# Altium schematic symbol library kmilo17pet-LT_OpAmp_LT2000.SchLib: 1710 symbols (part 34 of 75)
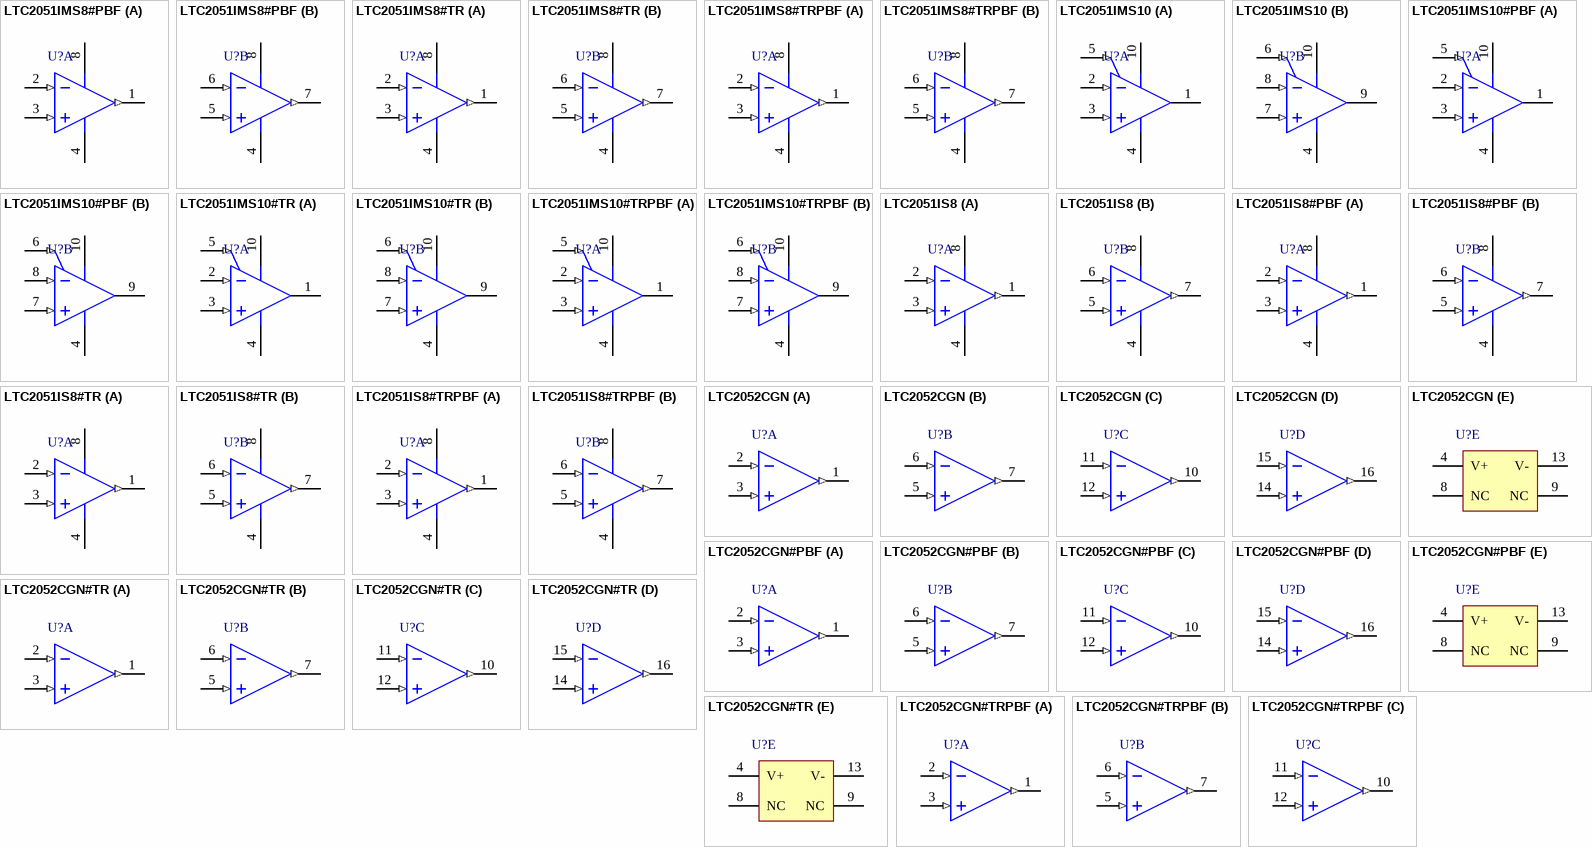
[diagram p113: symbols LTC2051IMS8#PBF to LTC2052CGN#TRPBF]

## LTC2051IS8#TR
designator U?
Dual Channel, Zero-Drift Operational Amplifier, 3 MHz Typical GBW, 2 V/us Typical SR, 2.7 to 6 V, 8-Pin SOIC (S8-8), Industrial, Reel; Linear Technology Part Number: LTC2051; Manufacturer: Linear Technology; PartNumber: LTC2051IS8#TR; Channels (#): 2; GBW (MHz) Typical: 3; Is (mA) Typical: 0.85; Vos (mV) Typical: 0.0005; Vs Max (V): 6; Vs Min (V): 2.7; DatasheetVersion: Rev. D; PackageVersion: Rev G; PackageReference: LT-S8-8; PackageDescription: 8-Pin Plastic Small Outline, Body 4.9 x 3.9 mm, Pitch 1.27 mm; Supplier 1: Digi-Key; Supplier Part Number 1: LTC2051IS8#TR-ND; Packing: Reel; SR (V/us) Typical: 2; Type: ZD; Mounting Technology: Surface Mount; ComponentLink1Description: Manufacturer URL; ComponentLink1URL: http://www.linear.com/; ComponentLink2Description: Datasheet; ComponentLink2URL: http://cds.linear.com/docs/en/datasheet/20512fd.pdf; ComponentLink3Description: Package Specification; ComponentLink3URL: http://cds.linear.com/docs/en/packaging/05081610_G_SO8.pdf
footprint LT-S8-8_N (SOIC, 8-Leads, Body 4.9x3.9mm, Pitch 1.27mm, IPC Medium Density)
footprint LT-S8-8_L (SOIC, 8-Leads, Body 4.9x3.9mm, Pitch 1.27mm, IPC High Density)
footprint LT-S8-8_M (SOIC, 8-Leads, Body 4.9x3.9mm, Pitch 1.27mm, IPC Low Density)
pins on every part: 4 V- (power), 8 V+ (power)
part A pins: 1 OUT A (out), 2 -IN A (in), 3 +IN A (in)
part B pins: 5 +IN B (in), 6 -IN B (in), 7 OUT B (out)

## LTC2051IS8#TRPBF
designator U?
Dual Channel, Zero-Drift Operational Amplifier, 3 MHz Typical GBW, 2 V/us Typical SR, 2.7 to 6 V, 8-Pin SOIC (S8-8), Industrial, Pb-Free, Reel; Linear Technology Part Number: LTC2051; Manufacturer: Linear Technology; PartNumber: LTC2051IS8#TRPBF; Channels (#): 2; GBW (MHz) Typical: 3; Is (mA) Typical: 0.85; Vos (mV) Typical: 0.0005; Vs Max (V): 6; Vs Min (V): 2.7; DatasheetVersion: Rev. D; PackageVersion: Rev G; PackageReference: LT-S8-8; PackageDescription: 8-Pin Plastic Small Outline, Body 4.9 x 3.9 mm, Pitch 1.27 mm; Supplier 1: Digi-Key; Supplier Part Number 1: LTC2051IS8#TRPBF-ND; Packing: Reel; RoHS: Pb-Free; SR (V/us) Typical: 2; Type: ZD; Mounting Technology: Surface Mount; ComponentLink1Description: Manufacturer URL; ComponentLink1URL: http://www.linear.com/; ComponentLink2Description: Datasheet; ComponentLink2URL: http://cds.linear.com/docs/en/datasheet/20512fd.pdf; ComponentLink3Description: Package Specification; ComponentLink3URL: http://cds.linear.com/docs/en/packaging/05081610_G_SO8.pdf
footprint LT-S8-8_N (SOIC, 8-Leads, Body 4.9x3.9mm, Pitch 1.27mm, IPC Medium Density)
footprint LT-S8-8_L (SOIC, 8-Leads, Body 4.9x3.9mm, Pitch 1.27mm, IPC High Density)
footprint LT-S8-8_M (SOIC, 8-Leads, Body 4.9x3.9mm, Pitch 1.27mm, IPC Low Density)
pins on every part: 4 V- (power), 8 V+ (power)
part A pins: 1 OUT A (out), 2 -IN A (in), 3 +IN A (in)
part B pins: 5 +IN B (in), 6 -IN B (in), 7 OUT B (out)

## LTC2052CGN
designator U?
Quad Channel, Zero-Drift Operational Amplifier, 3 MHz Typical GBW, 2 V/us Typical SR, 2.7 to 6 V, 16-Pin SOP (GN-16), Commercial; Linear Technology Part Number: LTC2052; Manufacturer: Linear Technology; PartNumber: LTC2052CGN; Channels (#): 4; GBW (MHz) Typical: 3; Is (mA) Typical: 0.85; SR (V/us) Typical: 2; Vos (mV) Typical: 0.0005; Vs Max (V): 6; Vs Min (V): 2.7; DatasheetVersion: Rev. D; PackageVersion: Rev B; PackageReference: LT-GN-16; PackageDescription: 16-Lead Plastic SSOP, Body 4.9 x 3.9 mm, Pitch 0.635 mm; Supplier 1: Digi-Key; Supplier Part Number 1: LTC2052CGN-ND; Type: ZD; Mounting Technology: Surface Mount; ComponentLink1Description: Manufacturer URL; ComponentLink1URL: http://www.linear.com/; ComponentLink2Description: Datasheet; ComponentLink2URL: http://cds.linear.com/docs/en/datasheet/20512fd.pdf; ComponentLink3Description: Package Specification; ComponentLink3URL: http://cds.linear.com/docs/en/packaging/05081641_B_GN16.pdf
footprint LT-GN-16_N (SOP, 16-Leads, Body 4.9x3.9mm, Pitch 0.635mm, IPC Medium Density)
footprint LT-GN-16_L (SOP, 16-Leads, Body 4.9x3.9mm, Pitch 0.635mm, IPC High Density)
footprint LT-GN-16_M (SOP, 16-Leads, Body 4.9x3.9mm, Pitch 0.635mm, IPC Low Density)
part A pins: 1 OUT A (out), 2 -IN A (in), 3 +IN A (in)
part B pins: 5 +IN B (in), 6 -IN B (in), 7 OUT B (out)
part C pins: 10 OUT C (out), 11 -IN C (in), 12 +IN C (in)
part D pins: 14 +IN D (in), 15 -IN D (in), 16 OUT D (out)
part E pins: 4 V+ (power), 8 NC, 9 NC, 13 V- (power)

## LTC2052CGN#PBF
designator U?
Quad Channel, Zero-Drift Operational Amplifier, 3 MHz Typical GBW, 2 V/us Typical SR, 2.7 to 6 V, 16-Pin SOP (GN-16), Commercial, Pb-Free; Linear Technology Part Number: LTC2052; Manufacturer: Linear Technology; PartNumber: LTC2052CGN#PBF; Channels (#): 4; GBW (MHz) Typical: 3; Is (mA) Typical: 0.85; SR (V/us) Typical: 2; Vos (mV) Typical: 0.0005; Vs Max (V): 6; Vs Min (V): 2.7; DatasheetVersion: Rev. D; PackageVersion: Rev B; PackageReference: LT-GN-16; PackageDescription: 16-Lead Plastic SSOP, Body 4.9 x 3.9 mm, Pitch 0.635 mm; Supplier 1: Digi-Key; Supplier Part Number 1: LTC2052CGN#PBF-ND; Supplier 2: Newark; Supplier Part Number 2: 56M4658; RoHS: Pb-Free; Type: ZD; Mounting Technology: Surface Mount; ComponentLink1Description: Manufacturer URL; ComponentLink1URL: http://www.linear.com/; ComponentLink2Description: Datasheet; ComponentLink2URL: http://cds.linear.com/docs/en/datasheet/20512fd.pdf; ComponentLink3Description: Package Specification; ComponentLink3URL: http://cds.linear.com/docs/en/packaging/05081641_B_GN16.pdf
footprint LT-GN-16_N (SOP, 16-Leads, Body 4.9x3.9mm, Pitch 0.635mm, IPC Medium Density)
footprint LT-GN-16_L (SOP, 16-Leads, Body 4.9x3.9mm, Pitch 0.635mm, IPC High Density)
footprint LT-GN-16_M (SOP, 16-Leads, Body 4.9x3.9mm, Pitch 0.635mm, IPC Low Density)
part A pins: 1 OUT A (out), 2 -IN A (in), 3 +IN A (in)
part B pins: 5 +IN B (in), 6 -IN B (in), 7 OUT B (out)
part C pins: 10 OUT C (out), 11 -IN C (in), 12 +IN C (in)
part D pins: 14 +IN D (in), 15 -IN D (in), 16 OUT D (out)
part E pins: 4 V+ (power), 8 NC, 9 NC, 13 V- (power)

## LTC2052CGN#TR
designator U?
Quad Channel, Zero-Drift Operational Amplifier, 3 MHz Typical GBW, 2 V/us Typical SR, 2.7 to 6 V, 16-Pin SOP (GN-16), Commercial, Reel; Linear Technology Part Number: LTC2052; Manufacturer: Linear Technology; PartNumber: LTC2052CGN#TR; Channels (#): 4; GBW (MHz) Typical: 3; Is (mA) Typical: 0.85; SR (V/us) Typical: 2; Vos (mV) Typical: 0.0005; Vs Max (V): 6; Vs Min (V): 2.7; DatasheetVersion: Rev. D; PackageVersion: Rev B; PackageReference: LT-GN-16; PackageDescription: 16-Lead Plastic SSOP, Body 4.9 x 3.9 mm, Pitch 0.635 mm; Supplier 1: Digi-Key; Supplier Part Number 1: LTC2052CGNTR-ND; Packing: Reel; Type: ZD; Mounting Technology: Surface Mount; ComponentLink1Description: Manufacturer URL; ComponentLink1URL: http://www.linear.com/; ComponentLink2Description: Datasheet; ComponentLink2URL: http://cds.linear.com/docs/en/datasheet/20512fd.pdf; ComponentLink3Description: Package Specification; ComponentLink3URL: http://cds.linear.com/docs/en/packaging/05081641_B_GN16.pdf
footprint LT-GN-16_N (SOP, 16-Leads, Body 4.9x3.9mm, Pitch 0.635mm, IPC Medium Density)
footprint LT-GN-16_L (SOP, 16-Leads, Body 4.9x3.9mm, Pitch 0.635mm, IPC High Density)
footprint LT-GN-16_M (SOP, 16-Leads, Body 4.9x3.9mm, Pitch 0.635mm, IPC Low Density)
part A pins: 1 OUT A (out), 2 -IN A (in), 3 +IN A (in)
part B pins: 5 +IN B (in), 6 -IN B (in), 7 OUT B (out)
part C pins: 10 OUT C (out), 11 -IN C (in), 12 +IN C (in)
part D pins: 14 +IN D (in), 15 -IN D (in), 16 OUT D (out)
part E pins: 4 V+ (power), 8 NC, 9 NC, 13 V- (power)

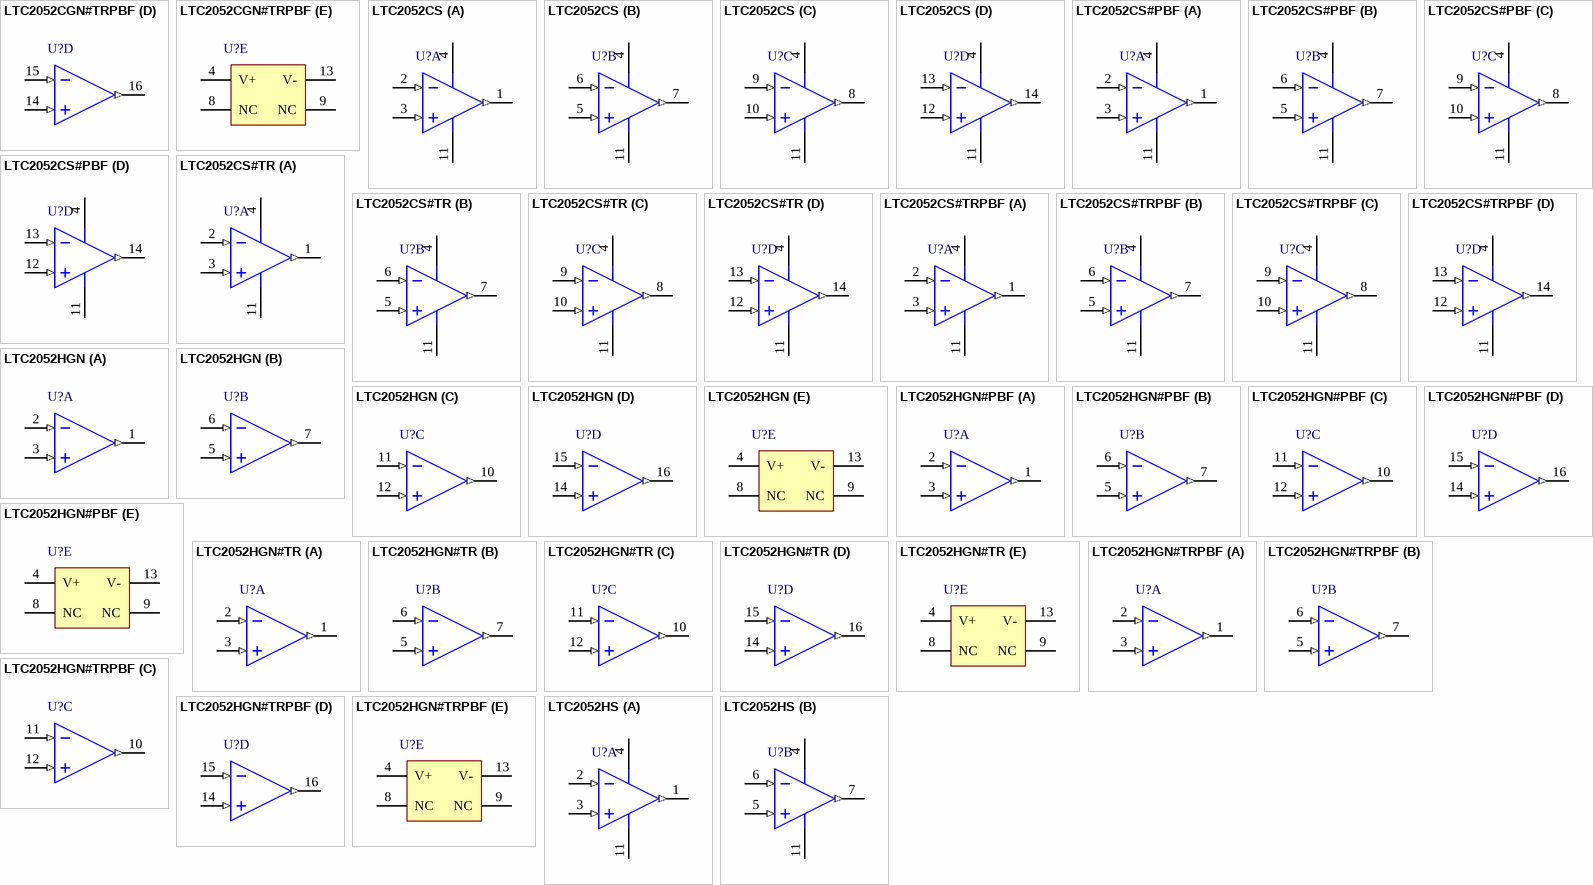
[diagram p42: symbols LTC2052CGN#TRPBF to LTC2052HS]

## LTC2052CGN#TRPBF
designator U?
Quad Channel, Zero-Drift Operational Amplifier, 3 MHz Typical GBW, 2 V/us Typical SR, 2.7 to 6 V, 16-Pin SOP (GN-16), Commercial, Pb-Free, Reel; Linear Technology Part Number: LTC2052; Manufacturer: Linear Technology; PartNumber: LTC2052CGN#TRPBF; Channels (#): 4; GBW (MHz) Typical: 3; Is (mA) Typical: 0.85; SR (V/us) Typical: 2; Vos (mV) Typical: 0.0005; Vs Max (V): 6; Vs Min (V): 2.7; DatasheetVersion: Rev. D; PackageVersion: Rev B; PackageReference: LT-GN-16; PackageDescription: 16-Lead Plastic SSOP, Body 4.9 x 3.9 mm, Pitch 0.635 mm; Supplier 1: Digi-Key; Supplier Part Number 1: LTC2052CGN#TRPBF-ND; Packing: Reel; RoHS: Pb-Free; Type: ZD; Mounting Technology: Surface Mount; ComponentLink1Description: Manufacturer URL; ComponentLink1URL: http://www.linear.com/; ComponentLink2Description: Datasheet; ComponentLink2URL: http://cds.linear.com/docs/en/datasheet/20512fd.pdf; ComponentLink3Description: Package Specification; ComponentLink3URL: http://cds.linear.com/docs/en/packaging/05081641_B_GN16.pdf
footprint LT-GN-16_N (SOP, 16-Leads, Body 4.9x3.9mm, Pitch 0.635mm, IPC Medium Density)
footprint LT-GN-16_L (SOP, 16-Leads, Body 4.9x3.9mm, Pitch 0.635mm, IPC High Density)
footprint LT-GN-16_M (SOP, 16-Leads, Body 4.9x3.9mm, Pitch 0.635mm, IPC Low Density)
part A pins: 1 OUT A (out), 2 -IN A (in), 3 +IN A (in)
part B pins: 5 +IN B (in), 6 -IN B (in), 7 OUT B (out)
part C pins: 10 OUT C (out), 11 -IN C (in), 12 +IN C (in)
part D pins: 14 +IN D (in), 15 -IN D (in), 16 OUT D (out)
part E pins: 4 V+ (power), 8 NC, 9 NC, 13 V- (power)

## LTC2052CS
designator U?
Quad Channel, Zero-Drift Operational Amplifier, 3 MHz Typical GBW, 2 V/us Typical SR, 2.7 to 6 V, 14-Pin SOIC (S-14), Commercial; Linear Technology Part Number: LTC2052; Manufacturer: Linear Technology; PartNumber: LTC2052CS; Channels (#): 4; GBW (MHz) Typical: 3; Is (mA) Typical: 0.85; SR (V/us) Typical: 2; Vos (mV) Typical: 0.0005; Vs Max (V): 6; Vs Min (V): 2.7; DatasheetVersion: Rev. D; PackageVersion: Rev G; PackageReference: LT-S-14; PackageDescription: 14-Lead Plastic Small Outline, Body 8.65 x 3.90 mm, Pitch 1.27 mm; Supplier 1: Digi-Key; Supplier Part Number 1: LTC2052CS-ND; Type: ZD; Mounting Technology: Surface Mount; ComponentLink1Description: Manufacturer URL; ComponentLink1URL: http://www.linear.com/; ComponentLink2Description: Datasheet; ComponentLink2URL: http://cds.linear.com/docs/en/datasheet/20512fd.pdf; ComponentLink3Description: Package Specification; ComponentLink3URL: http://cds.linear.com/docs/en/packaging/05081610_G_S14.pdf
footprint LT-S-14_N (SOIC, 14-Leads, Body 8.65x3.90mm, Pitch 1.27mm, IPC Medium Density)
footprint LT-S-14_L (SOIC, 14-Leads, Body 8.65x3.90mm, Pitch 1.27mm, IPC High Density)
footprint LT-S-14_M (SOIC, 14-Leads, Body 8.65x3.90mm, Pitch 1.27mm, IPC Low Density)
pins on every part: 4 V+ (power), 11 V- (power)
part A pins: 1 OUT A (out), 2 -IN A (in), 3 +IN A (in)
part B pins: 5 +IN B (in), 6 -IN B (in), 7 OUT B (out)
part C pins: 8 OUT C (out), 9 -IN C (in), 10 +IN C (in)
part D pins: 12 +IN D (in), 13 -IN D (in), 14 OUT D (out)

## LTC2052CS#PBF
designator U?
Quad Channel, Zero-Drift Operational Amplifier, 3 MHz Typical GBW, 2 V/us Typical SR, 2.7 to 6 V, 14-Pin SOIC (S-14), Commercial, Pb-Free; Linear Technology Part Number: LTC2052; Manufacturer: Linear Technology; PartNumber: LTC2052CS#PBF; Channels (#): 4; GBW (MHz) Typical: 3; Is (mA) Typical: 0.85; SR (V/us) Typical: 2; Vos (mV) Typical: 0.0005; Vs Max (V): 6; Vs Min (V): 2.7; DatasheetVersion: Rev. D; PackageVersion: Rev G; PackageReference: LT-S-14; PackageDescription: 14-Lead Plastic Small Outline, Body 8.65 x 3.90 mm, Pitch 1.27 mm; Supplier 1: Digi-Key; Supplier Part Number 1: LTC2052CS#PBF-ND; Supplier 2: Farnell; Supplier Part Number 2: 1330911; Supplier 3: Newark; Supplier Part Number 3: 56M4662; RoHS: Pb-Free; Type: ZD; Mounting Technology: Surface Mount; ComponentLink1Description: Manufacturer URL; ComponentLink1URL: http://www.linear.com/; ComponentLink2Description: Datasheet; ComponentLink2URL: http://cds.linear.com/docs/en/datasheet/20512fd.pdf; ComponentLink3Description: Package Specification; ComponentLink3URL: http://cds.linear.com/docs/en/packaging/05081610_G_S14.pdf
footprint LT-S-14_N (SOIC, 14-Leads, Body 8.65x3.90mm, Pitch 1.27mm, IPC Medium Density)
footprint LT-S-14_L (SOIC, 14-Leads, Body 8.65x3.90mm, Pitch 1.27mm, IPC High Density)
footprint LT-S-14_M (SOIC, 14-Leads, Body 8.65x3.90mm, Pitch 1.27mm, IPC Low Density)
pins on every part: 4 V+ (power), 11 V- (power)
part A pins: 1 OUT A (out), 2 -IN A (in), 3 +IN A (in)
part B pins: 5 +IN B (in), 6 -IN B (in), 7 OUT B (out)
part C pins: 8 OUT C (out), 9 -IN C (in), 10 +IN C (in)
part D pins: 12 +IN D (in), 13 -IN D (in), 14 OUT D (out)

## LTC2052CS#TR
designator U?
Quad Channel, Zero-Drift Operational Amplifier, 3 MHz Typical GBW, 2 V/us Typical SR, 2.7 to 6 V, 14-Pin SOIC (S-14), Commercial, Reel; Linear Technology Part Number: LTC2052; Manufacturer: Linear Technology; PartNumber: LTC2052CS#TR; Channels (#): 4; GBW (MHz) Typical: 3; Is (mA) Typical: 0.85; SR (V/us) Typical: 2; Vos (mV) Typical: 0.0005; Vs Max (V): 6; Vs Min (V): 2.7; DatasheetVersion: Rev. D; PackageVersion: Rev G; PackageReference: LT-S-14; PackageDescription: 14-Lead Plastic Small Outline, Body 8.65 x 3.90 mm, Pitch 1.27 mm; Supplier 1: Digi-Key; Supplier Part Number 1: LTC2052CSTR-ND; Packing: Reel; Type: ZD; Mounting Technology: Surface Mount; ComponentLink1Description: Manufacturer URL; ComponentLink1URL: http://www.linear.com/; ComponentLink2Description: Datasheet; ComponentLink2URL: http://cds.linear.com/docs/en/datasheet/20512fd.pdf; ComponentLink3Description: Package Specification; ComponentLink3URL: http://cds.linear.com/docs/en/packaging/05081610_G_S14.pdf
footprint LT-S-14_N (SOIC, 14-Leads, Body 8.65x3.90mm, Pitch 1.27mm, IPC Medium Density)
footprint LT-S-14_L (SOIC, 14-Leads, Body 8.65x3.90mm, Pitch 1.27mm, IPC High Density)
footprint LT-S-14_M (SOIC, 14-Leads, Body 8.65x3.90mm, Pitch 1.27mm, IPC Low Density)
pins on every part: 4 V+ (power), 11 V- (power)
part A pins: 1 OUT A (out), 2 -IN A (in), 3 +IN A (in)
part B pins: 5 +IN B (in), 6 -IN B (in), 7 OUT B (out)
part C pins: 8 OUT C (out), 9 -IN C (in), 10 +IN C (in)
part D pins: 12 +IN D (in), 13 -IN D (in), 14 OUT D (out)

## LTC2052CS#TRPBF
designator U?
Quad Channel, Zero-Drift Operational Amplifier, 3 MHz Typical GBW, 2 V/us Typical SR, 2.7 to 6 V, 14-Pin SOIC (S-14), Commercial, Pb-Free, Reel; Linear Technology Part Number: LTC2052; Manufacturer: Linear Technology; PartNumber: LTC2052CS#TRPBF; Channels (#): 4; GBW (MHz) Typical: 3; Is (mA) Typical: 0.85; SR (V/us) Typical: 2; Vos (mV) Typical: 0.0005; Vs Max (V): 6; Vs Min (V): 2.7; DatasheetVersion: Rev. D; PackageVersion: Rev G; PackageReference: LT-S-14; PackageDescription: 14-Lead Plastic Small Outline, Body 8.65 x 3.90 mm, Pitch 1.27 mm; Supplier 1: Digi-Key; Supplier Part Number 1: LTC2052CS#TRPBF-ND; Packing: Reel; RoHS: Pb-Free; Type: ZD; Mounting Technology: Surface Mount; ComponentLink1Description: Manufacturer URL; ComponentLink1URL: http://www.linear.com/; ComponentLink2Description: Datasheet; ComponentLink2URL: http://cds.linear.com/docs/en/datasheet/20512fd.pdf; ComponentLink3Description: Package Specification; ComponentLink3URL: http://cds.linear.com/docs/en/packaging/05081610_G_S14.pdf
footprint LT-S-14_N (SOIC, 14-Leads, Body 8.65x3.90mm, Pitch 1.27mm, IPC Medium Density)
footprint LT-S-14_L (SOIC, 14-Leads, Body 8.65x3.90mm, Pitch 1.27mm, IPC High Density)
footprint LT-S-14_M (SOIC, 14-Leads, Body 8.65x3.90mm, Pitch 1.27mm, IPC Low Density)
pins on every part: 4 V+ (power), 11 V- (power)
part A pins: 1 OUT A (out), 2 -IN A (in), 3 +IN A (in)
part B pins: 5 +IN B (in), 6 -IN B (in), 7 OUT B (out)
part C pins: 8 OUT C (out), 9 -IN C (in), 10 +IN C (in)
part D pins: 12 +IN D (in), 13 -IN D (in), 14 OUT D (out)

## LTC2052HGN
designator U?
Quad Channel, Zero-Drift Operational Amplifier, 3 MHz Typical GBW, 2 V/us Typical SR, 2.7 to 6 V, 16-Pin SOP (GN-16), High Temperature / Automotive; Linear Technology Part Number: LTC2052; Manufacturer: Linear Technology; PartNumber: LTC2052HGN; Channels (#): 4; GBW (MHz) Typical: 3; Is (mA) Typical: 0.85; SR (V/us) Typical: 2; Vos (mV) Typical: 0.0005; Vs Max (V): 6; Vs Min (V): 2.7; DatasheetVersion: Rev. D; PackageVersion: Rev B; PackageReference: LT-GN-16; PackageDescription: 16-Lead Plastic SSOP, Body 4.9 x 3.9 mm, Pitch 0.635 mm; Supplier 1: Digi-Key; Supplier Part Number 1: LTC2052HGN-ND; Type: ZD; Mounting Technology: Surface Mount; ComponentLink1Description: Manufacturer URL; ComponentLink1URL: http://www.linear.com/; ComponentLink2Description: Datasheet; ComponentLink2URL: http://cds.linear.com/docs/en/datasheet/20512fd.pdf; ComponentLink3Description: Package Specification; ComponentLink3URL: http://cds.linear.com/docs/en/packaging/05081641_B_GN16.pdf
footprint LT-GN-16_N (SOP, 16-Leads, Body 4.9x3.9mm, Pitch 0.635mm, IPC Medium Density)
footprint LT-GN-16_L (SOP, 16-Leads, Body 4.9x3.9mm, Pitch 0.635mm, IPC High Density)
footprint LT-GN-16_M (SOP, 16-Leads, Body 4.9x3.9mm, Pitch 0.635mm, IPC Low Density)
part A pins: 1 OUT A (out), 2 -IN A (in), 3 +IN A (in)
part B pins: 5 +IN B (in), 6 -IN B (in), 7 OUT B (out)
part C pins: 10 OUT C (out), 11 -IN C (in), 12 +IN C (in)
part D pins: 14 +IN D (in), 15 -IN D (in), 16 OUT D (out)
part E pins: 4 V+ (power), 8 NC, 9 NC, 13 V- (power)

## LTC2052HGN#PBF
designator U?
Quad Channel, Zero-Drift Operational Amplifier, 3 MHz Typical GBW, 2 V/us Typical SR, 2.7 to 6 V, 16-Pin SOP (GN-16), High Temperature / Automotive, Pb-Free; Linear Technology Part Number: LTC2052; Manufacturer: Linear Technology; PartNumber: LTC2052HGN#PBF; Channels (#): 4; GBW (MHz) Typical: 3; Is (mA) Typical: 0.85; SR (V/us) Typical: 2; Vos (mV) Typical: 0.0005; Vs Max (V): 6; Vs Min (V): 2.7; DatasheetVersion: Rev. D; PackageVersion: Rev B; PackageReference: LT-GN-16; PackageDescription: 16-Lead Plastic SSOP, Body 4.9 x 3.9 mm, Pitch 0.635 mm; Supplier 1: Digi-Key; Supplier Part Number 1: LTC2052HGN#PBF-ND; RoHS: Pb-Free; Type: ZD; Mounting Technology: Surface Mount; ComponentLink1Description: Manufacturer URL; ComponentLink1URL: http://www.linear.com/; ComponentLink2Description: Datasheet; ComponentLink2URL: http://cds.linear.com/docs/en/datasheet/20512fd.pdf; ComponentLink3Description: Package Specification; ComponentLink3URL: http://cds.linear.com/docs/en/packaging/05081641_B_GN16.pdf
footprint LT-GN-16_N (SOP, 16-Leads, Body 4.9x3.9mm, Pitch 0.635mm, IPC Medium Density)
footprint LT-GN-16_L (SOP, 16-Leads, Body 4.9x3.9mm, Pitch 0.635mm, IPC High Density)
footprint LT-GN-16_M (SOP, 16-Leads, Body 4.9x3.9mm, Pitch 0.635mm, IPC Low Density)
part A pins: 1 OUT A (out), 2 -IN A (in), 3 +IN A (in)
part B pins: 5 +IN B (in), 6 -IN B (in), 7 OUT B (out)
part C pins: 10 OUT C (out), 11 -IN C (in), 12 +IN C (in)
part D pins: 14 +IN D (in), 15 -IN D (in), 16 OUT D (out)
part E pins: 4 V+ (power), 8 NC, 9 NC, 13 V- (power)

## LTC2052HGN#TR
designator U?
Quad Channel, Zero-Drift Operational Amplifier, 3 MHz Typical GBW, 2 V/us Typical SR, 2.7 to 6 V, 16-Pin SOP (GN-16), High Temperature / Automotive, Reel; Linear Technology Part Number: LTC2052; Manufacturer: Linear Technology; PartNumber: LTC2052HGN#TR; Channels (#): 4; GBW (MHz) Typical: 3; Is (mA) Typical: 0.85; SR (V/us) Typical: 2; Vos (mV) Typical: 0.0005; Vs Max (V): 6; Vs Min (V): 2.7; DatasheetVersion: Rev. D; PackageVersion: Rev B; PackageReference: LT-GN-16; PackageDescription: 16-Lead Plastic SSOP, Body 4.9 x 3.9 mm, Pitch 0.635 mm; Supplier 1: Digi-Key; Supplier Part Number 1: LTC2052HGNTR-ND; Packing: Reel; Type: ZD; Mounting Technology: Surface Mount; ComponentLink1Description: Manufacturer URL; ComponentLink1URL: http://www.linear.com/; ComponentLink2Description: Datasheet; ComponentLink2URL: http://cds.linear.com/docs/en/datasheet/20512fd.pdf; ComponentLink3Description: Package Specification; ComponentLink3URL: http://cds.linear.com/docs/en/packaging/05081641_B_GN16.pdf
footprint LT-GN-16_N (SOP, 16-Leads, Body 4.9x3.9mm, Pitch 0.635mm, IPC Medium Density)
footprint LT-GN-16_L (SOP, 16-Leads, Body 4.9x3.9mm, Pitch 0.635mm, IPC High Density)
footprint LT-GN-16_M (SOP, 16-Leads, Body 4.9x3.9mm, Pitch 0.635mm, IPC Low Density)
part A pins: 1 OUT A (out), 2 -IN A (in), 3 +IN A (in)
part B pins: 5 +IN B (in), 6 -IN B (in), 7 OUT B (out)
part C pins: 10 OUT C (out), 11 -IN C (in), 12 +IN C (in)
part D pins: 14 +IN D (in), 15 -IN D (in), 16 OUT D (out)
part E pins: 4 V+ (power), 8 NC, 9 NC, 13 V- (power)

## LTC2052HGN#TRPBF
designator U?
Quad Channel, Zero-Drift Operational Amplifier, 3 MHz Typical GBW, 2 V/us Typical SR, 2.7 to 6 V, 16-Pin SOP (GN-16), High Temperature / Automotive, Pb-Free, Reel; Linear Technology Part Number: LTC2052; Manufacturer: Linear Technology; PartNumber: LTC2052HGN#TRPBF; Channels (#): 4; GBW (MHz) Typical: 3; Is (mA) Typical: 0.85; SR (V/us) Typical: 2; Vos (mV) Typical: 0.0005; Vs Max (V): 6; Vs Min (V): 2.7; DatasheetVersion: Rev. D; PackageVersion: Rev B; PackageReference: LT-GN-16; PackageDescription: 16-Lead Plastic SSOP, Body 4.9 x 3.9 mm, Pitch 0.635 mm; Supplier 1: Digi-Key; Supplier Part Number 1: LTC2052HGN#TRPBF-ND; Packing: Reel; RoHS: Pb-Free; Type: ZD; Mounting Technology: Surface Mount; ComponentLink1Description: Manufacturer URL; ComponentLink1URL: http://www.linear.com/; ComponentLink2Description: Datasheet; ComponentLink2URL: http://cds.linear.com/docs/en/datasheet/20512fd.pdf; ComponentLink3Description: Package Specification; ComponentLink3URL: http://cds.linear.com/docs/en/packaging/05081641_B_GN16.pdf
footprint LT-GN-16_N (SOP, 16-Leads, Body 4.9x3.9mm, Pitch 0.635mm, IPC Medium Density)
footprint LT-GN-16_L (SOP, 16-Leads, Body 4.9x3.9mm, Pitch 0.635mm, IPC High Density)
footprint LT-GN-16_M (SOP, 16-Leads, Body 4.9x3.9mm, Pitch 0.635mm, IPC Low Density)
part A pins: 1 OUT A (out), 2 -IN A (in), 3 +IN A (in)
part B pins: 5 +IN B (in), 6 -IN B (in), 7 OUT B (out)
part C pins: 10 OUT C (out), 11 -IN C (in), 12 +IN C (in)
part D pins: 14 +IN D (in), 15 -IN D (in), 16 OUT D (out)
part E pins: 4 V+ (power), 8 NC, 9 NC, 13 V- (power)

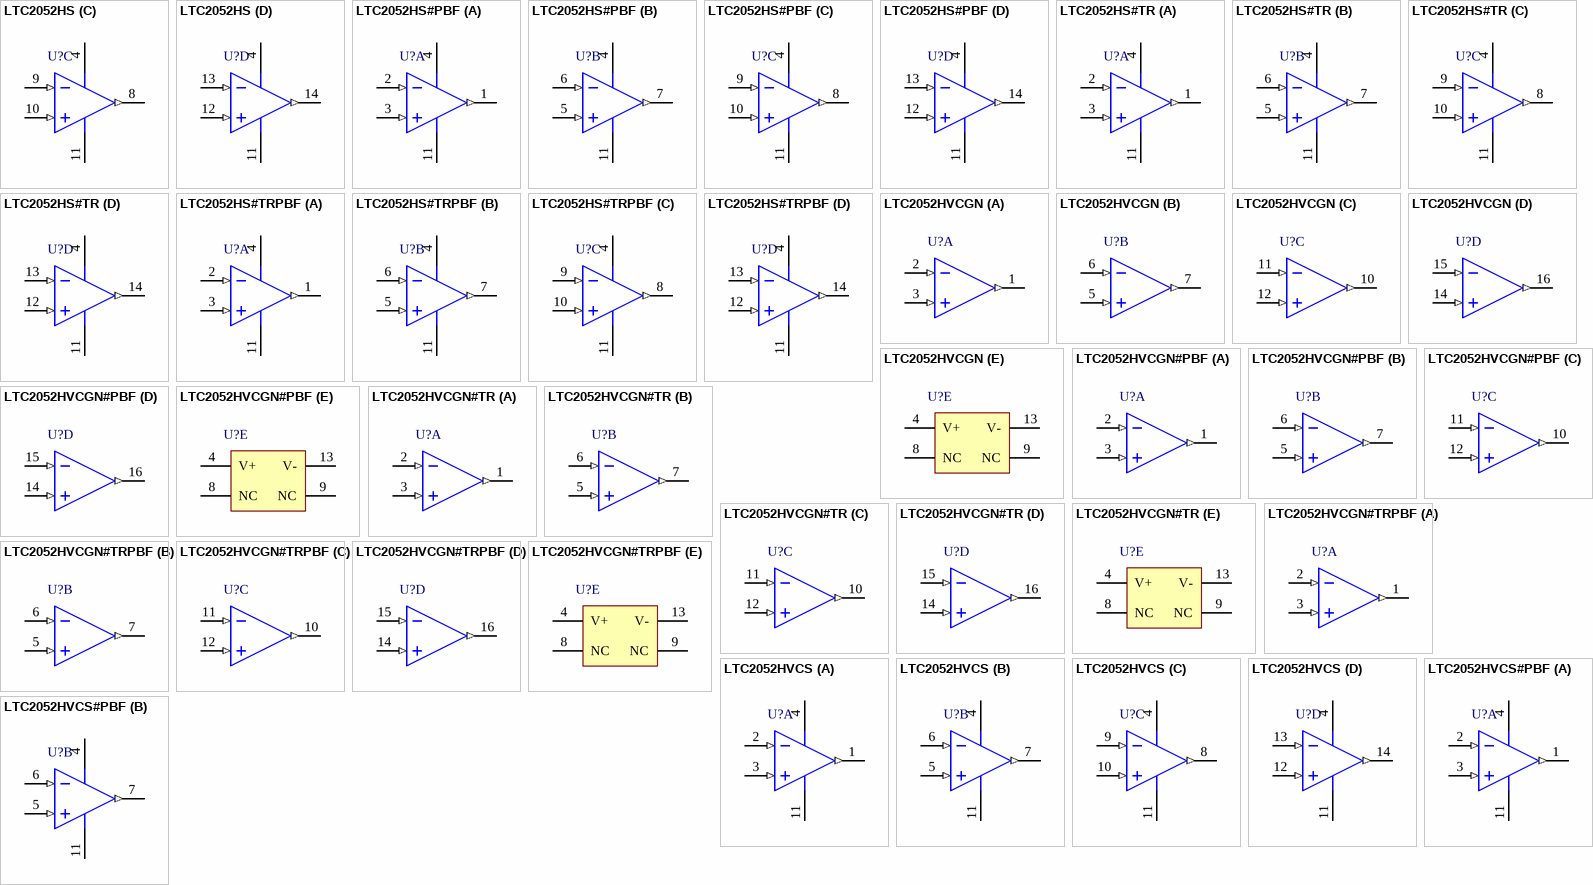
[diagram p43: symbols LTC2052HS to LTC2052HVCS#PBF]

## LTC2052HS
designator U?
Quad Channel, Zero-Drift Operational Amplifier, 3 MHz Typical GBW, 2 V/us Typical SR, 2.7 to 6 V, 14-Pin SOIC (S-14), High Temperature / Automotive; Linear Technology Part Number: LTC2052; Manufacturer: Linear Technology; PartNumber: LTC2052HS; Channels (#): 4; GBW (MHz) Typical: 3; Is (mA) Typical: 0.85; SR (V/us) Typical: 2; Vos (mV) Typical: 0.0005; Vs Max (V): 6; Vs Min (V): 2.7; DatasheetVersion: Rev. D; PackageVersion: Rev G; PackageReference: LT-S-14; PackageDescription: 14-Lead Plastic Small Outline, Body 8.65 x 3.90 mm, Pitch 1.27 mm; Supplier 1: Digi-Key; Supplier Part Number 1: LTC2052HS-ND; Supplier 2: Newark; Supplier Part Number 2: 56M4669; Type: ZD; Mounting Technology: Surface Mount; ComponentLink1Description: Manufacturer URL; ComponentLink1URL: http://www.linear.com/; ComponentLink2Description: Datasheet; ComponentLink2URL: http://cds.linear.com/docs/en/datasheet/20512fd.pdf; ComponentLink3Description: Package Specification; ComponentLink3URL: http://cds.linear.com/docs/en/packaging/05081610_G_S14.pdf
footprint LT-S-14_N (SOIC, 14-Leads, Body 8.65x3.90mm, Pitch 1.27mm, IPC Medium Density)
footprint LT-S-14_L (SOIC, 14-Leads, Body 8.65x3.90mm, Pitch 1.27mm, IPC High Density)
footprint LT-S-14_M (SOIC, 14-Leads, Body 8.65x3.90mm, Pitch 1.27mm, IPC Low Density)
pins on every part: 4 V+ (power), 11 V- (power)
part A pins: 1 OUT A (out), 2 -IN A (in), 3 +IN A (in)
part B pins: 5 +IN B (in), 6 -IN B (in), 7 OUT B (out)
part C pins: 8 OUT C (out), 9 -IN C (in), 10 +IN C (in)
part D pins: 12 +IN D (in), 13 -IN D (in), 14 OUT D (out)

## LTC2052HS#PBF
designator U?
Quad Channel, Zero-Drift Operational Amplifier, 3 MHz Typical GBW, 2 V/us Typical SR, 2.7 to 6 V, 14-Pin SOIC (S-14), High Temperature / Automotive, Pb-Free; Linear Technology Part Number: LTC2052; Manufacturer: Linear Technology; PartNumber: LTC2052HS#PBF; Channels (#): 4; GBW (MHz) Typical: 3; Is (mA) Typical: 0.85; SR (V/us) Typical: 2; Vos (mV) Typical: 0.0005; Vs Max (V): 6; Vs Min (V): 2.7; DatasheetVersion: Rev. D; PackageVersion: Rev G; PackageReference: LT-S-14; PackageDescription: 14-Lead Plastic Small Outline, Body 8.65 x 3.90 mm, Pitch 1.27 mm; Supplier 1: Digi-Key; Supplier Part Number 1: LTC2052HS#PBF-ND; Supplier 2: Newark; Supplier Part Number 2: 56M4670; RoHS: Pb-Free; Type: ZD; Mounting Technology: Surface Mount; ComponentLink1Description: Manufacturer URL; ComponentLink1URL: http://www.linear.com/; ComponentLink2Description: Datasheet; ComponentLink2URL: http://cds.linear.com/docs/en/datasheet/20512fd.pdf; ComponentLink3Description: Package Specification; ComponentLink3URL: http://cds.linear.com/docs/en/packaging/05081610_G_S14.pdf
footprint LT-S-14_N (SOIC, 14-Leads, Body 8.65x3.90mm, Pitch 1.27mm, IPC Medium Density)
footprint LT-S-14_L (SOIC, 14-Leads, Body 8.65x3.90mm, Pitch 1.27mm, IPC High Density)
footprint LT-S-14_M (SOIC, 14-Leads, Body 8.65x3.90mm, Pitch 1.27mm, IPC Low Density)
pins on every part: 4 V+ (power), 11 V- (power)
part A pins: 1 OUT A (out), 2 -IN A (in), 3 +IN A (in)
part B pins: 5 +IN B (in), 6 -IN B (in), 7 OUT B (out)
part C pins: 8 OUT C (out), 9 -IN C (in), 10 +IN C (in)
part D pins: 12 +IN D (in), 13 -IN D (in), 14 OUT D (out)

## LTC2052HS#TR
designator U?
Quad Channel, Zero-Drift Operational Amplifier, 3 MHz Typical GBW, 2 V/us Typical SR, 2.7 to 6 V, 14-Pin SOIC (S-14), High Temperature / Automotive, Reel; Linear Technology Part Number: LTC2052; Manufacturer: Linear Technology; PartNumber: LTC2052HS#TR; Channels (#): 4; GBW (MHz) Typical: 3; Is (mA) Typical: 0.85; SR (V/us) Typical: 2; Vos (mV) Typical: 0.0005; Vs Max (V): 6; Vs Min (V): 2.7; DatasheetVersion: Rev. D; PackageVersion: Rev G; PackageReference: LT-S-14; PackageDescription: 14-Lead Plastic Small Outline, Body 8.65 x 3.90 mm, Pitch 1.27 mm; Supplier 1: Digi-Key; Supplier Part Number 1: LTC2052HSTR-ND; Supplier 2: Newark; Supplier Part Number 2: 56M4671; Packing: Reel; Type: ZD; Mounting Technology: Surface Mount; ComponentLink1Description: Manufacturer URL; ComponentLink1URL: http://www.linear.com/; ComponentLink2Description: Datasheet; ComponentLink2URL: http://cds.linear.com/docs/en/datasheet/20512fd.pdf; ComponentLink3Description: Package Specification; ComponentLink3URL: http://cds.linear.com/docs/en/packaging/05081610_G_S14.pdf
footprint LT-S-14_N (SOIC, 14-Leads, Body 8.65x3.90mm, Pitch 1.27mm, IPC Medium Density)
footprint LT-S-14_L (SOIC, 14-Leads, Body 8.65x3.90mm, Pitch 1.27mm, IPC High Density)
footprint LT-S-14_M (SOIC, 14-Leads, Body 8.65x3.90mm, Pitch 1.27mm, IPC Low Density)
pins on every part: 4 V+ (power), 11 V- (power)
part A pins: 1 OUT A (out), 2 -IN A (in), 3 +IN A (in)
part B pins: 5 +IN B (in), 6 -IN B (in), 7 OUT B (out)
part C pins: 8 OUT C (out), 9 -IN C (in), 10 +IN C (in)
part D pins: 12 +IN D (in), 13 -IN D (in), 14 OUT D (out)

## LTC2052HS#TRPBF
designator U?
Quad Channel, Zero-Drift Operational Amplifier, 3 MHz Typical GBW, 2 V/us Typical SR, 2.7 to 6 V, 14-Pin SOIC (S-14), High Temperature / Automotive, Pb-Free, Reel; Linear Technology Part Number: LTC2052; Manufacturer: Linear Technology; PartNumber: LTC2052HS#TRPBF; Channels (#): 4; GBW (MHz) Typical: 3; Is (mA) Typical: 0.85; SR (V/us) Typical: 2; Vos (mV) Typical: 0.0005; Vs Max (V): 6; Vs Min (V): 2.7; DatasheetVersion: Rev. D; PackageVersion: Rev G; PackageReference: LT-S-14; PackageDescription: 14-Lead Plastic Small Outline, Body 8.65 x 3.90 mm, Pitch 1.27 mm; Supplier 1: Digi-Key; Supplier Part Number 1: LTC2052HS#TRPBF-ND; Supplier 2: Newark; Supplier Part Number 2: 56M4672; Packing: Reel; RoHS: Pb-Free; Type: ZD; Mounting Technology: Surface Mount; ComponentLink1Description: Manufacturer URL; ComponentLink1URL: http://www.linear.com/; ComponentLink2Description: Datasheet; ComponentLink2URL: http://cds.linear.com/docs/en/datasheet/20512fd.pdf; ComponentLink3Description: Package Specification; ComponentLink3URL: http://cds.linear.com/docs/en/packaging/05081610_G_S14.pdf
footprint LT-S-14_N (SOIC, 14-Leads, Body 8.65x3.90mm, Pitch 1.27mm, IPC Medium Density)
footprint LT-S-14_L (SOIC, 14-Leads, Body 8.65x3.90mm, Pitch 1.27mm, IPC High Density)
footprint LT-S-14_M (SOIC, 14-Leads, Body 8.65x3.90mm, Pitch 1.27mm, IPC Low Density)
pins on every part: 4 V+ (power), 11 V- (power)
part A pins: 1 OUT A (out), 2 -IN A (in), 3 +IN A (in)
part B pins: 5 +IN B (in), 6 -IN B (in), 7 OUT B (out)
part C pins: 8 OUT C (out), 9 -IN C (in), 10 +IN C (in)
part D pins: 12 +IN D (in), 13 -IN D (in), 14 OUT D (out)

## LTC2052HVCGN
designator U?
Quad Channel, Zero-Drift Operational Amplifier, 3 MHz Typical GBW, 2 V/us Typical SR, 2.7 to 11 V, 16-Pin SOP (GN-16), Commercial; Linear Technology Part Number: LTC2052HV; Manufacturer: Linear Technology; PartNumber: LTC2052HVCGN; Channels (#): 4; GBW (MHz) Typical: 3; Is (mA) Typical: 0.85; SR (V/us) Typical: 2; Vos (mV) Typical: 0.0005; Vs Max (V): 11; Vs Min (V): 2.7; DatasheetVersion: Rev. D; PackageVersion: Rev B; PackageReference: LT-GN-16; PackageDescription: 16-Lead Plastic SSOP, Body 4.9 x 3.9 mm, Pitch 0.635 mm; Supplier 1: Digi-Key; Supplier Part Number 1: LTC2052HVCGN-ND; Type: ZD; Mounting Technology: Surface Mount; ComponentLink1Description: Manufacturer URL; ComponentLink1URL: http://www.linear.com/; ComponentLink2Description: Datasheet; ComponentLink2URL: http://cds.linear.com/docs/en/datasheet/20512fd.pdf; ComponentLink3Description: Package Specification; ComponentLink3URL: http://cds.linear.com/docs/en/packaging/05081641_B_GN16.pdf
footprint LT-GN-16_N (SOP, 16-Leads, Body 4.9x3.9mm, Pitch 0.635mm, IPC Medium Density)
footprint LT-GN-16_L (SOP, 16-Leads, Body 4.9x3.9mm, Pitch 0.635mm, IPC High Density)
footprint LT-GN-16_M (SOP, 16-Leads, Body 4.9x3.9mm, Pitch 0.635mm, IPC Low Density)
part A pins: 1 OUT A (out), 2 -IN A (in), 3 +IN A (in)
part B pins: 5 +IN B (in), 6 -IN B (in), 7 OUT B (out)
part C pins: 10 OUT C (out), 11 -IN C (in), 12 +IN C (in)
part D pins: 14 +IN D (in), 15 -IN D (in), 16 OUT D (out)
part E pins: 4 V+ (power), 8 NC, 9 NC, 13 V- (power)

## LTC2052HVCGN#PBF
designator U?
Quad Channel, Zero-Drift Operational Amplifier, 3 MHz Typical GBW, 2 V/us Typical SR, 2.7 to 11 V, 16-Pin SOP (GN-16), Commercial, Pb-Free; Linear Technology Part Number: LTC2052HV; Manufacturer: Linear Technology; PartNumber: LTC2052HVCGN#PBF; Channels (#): 4; GBW (MHz) Typical: 3; Is (mA) Typical: 0.85; SR (V/us) Typical: 2; Vos (mV) Typical: 0.0005; Vs Max (V): 11; Vs Min (V): 2.7; DatasheetVersion: Rev. D; PackageVersion: Rev B; PackageReference: LT-GN-16; PackageDescription: 16-Lead Plastic SSOP, Body 4.9 x 3.9 mm, Pitch 0.635 mm; Supplier 1: Digi-Key; Supplier Part Number 1: LTC2052HVCGN#PBF-ND; RoHS: Pb-Free; Type: ZD; Mounting Technology: Surface Mount; ComponentLink1Description: Manufacturer URL; ComponentLink1URL: http://www.linear.com/; ComponentLink2Description: Datasheet; ComponentLink2URL: http://cds.linear.com/docs/en/datasheet/20512fd.pdf; ComponentLink3Description: Package Specification; ComponentLink3URL: http://cds.linear.com/docs/en/packaging/05081641_B_GN16.pdf
footprint LT-GN-16_N (SOP, 16-Leads, Body 4.9x3.9mm, Pitch 0.635mm, IPC Medium Density)
footprint LT-GN-16_L (SOP, 16-Leads, Body 4.9x3.9mm, Pitch 0.635mm, IPC High Density)
footprint LT-GN-16_M (SOP, 16-Leads, Body 4.9x3.9mm, Pitch 0.635mm, IPC Low Density)
part A pins: 1 OUT A (out), 2 -IN A (in), 3 +IN A (in)
part B pins: 5 +IN B (in), 6 -IN B (in), 7 OUT B (out)
part C pins: 10 OUT C (out), 11 -IN C (in), 12 +IN C (in)
part D pins: 14 +IN D (in), 15 -IN D (in), 16 OUT D (out)
part E pins: 4 V+ (power), 8 NC, 9 NC, 13 V- (power)

## LTC2052HVCGN#TR
designator U?
Quad Channel, Zero-Drift Operational Amplifier, 3 MHz Typical GBW, 2 V/us Typical SR, 2.7 to 11 V, 16-Pin SOP (GN-16), Commercial, Reel; Linear Technology Part Number: LTC2052HV; Manufacturer: Linear Technology; PartNumber: LTC2052HVCGN#TR; Channels (#): 4; GBW (MHz) Typical: 3; Is (mA) Typical: 0.85; SR (V/us) Typical: 2; Vos (mV) Typical: 0.0005; Vs Max (V): 11; Vs Min (V): 2.7; DatasheetVersion: Rev. D; PackageVersion: Rev B; PackageReference: LT-GN-16; PackageDescription: 16-Lead Plastic SSOP, Body 4.9 x 3.9 mm, Pitch 0.635 mm; Supplier 1: Digi-Key; Supplier Part Number 1: LTC2052HVCGNTR-ND; Packing: Reel; Type: ZD; Mounting Technology: Surface Mount; ComponentLink1Description: Manufacturer URL; ComponentLink1URL: http://www.linear.com/; ComponentLink2Description: Datasheet; ComponentLink2URL: http://cds.linear.com/docs/en/datasheet/20512fd.pdf; ComponentLink3Description: Package Specification; ComponentLink3URL: http://cds.linear.com/docs/en/packaging/05081641_B_GN16.pdf
footprint LT-GN-16_N (SOP, 16-Leads, Body 4.9x3.9mm, Pitch 0.635mm, IPC Medium Density)
footprint LT-GN-16_L (SOP, 16-Leads, Body 4.9x3.9mm, Pitch 0.635mm, IPC High Density)
footprint LT-GN-16_M (SOP, 16-Leads, Body 4.9x3.9mm, Pitch 0.635mm, IPC Low Density)
part A pins: 1 OUT A (out), 2 -IN A (in), 3 +IN A (in)
part B pins: 5 +IN B (in), 6 -IN B (in), 7 OUT B (out)
part C pins: 10 OUT C (out), 11 -IN C (in), 12 +IN C (in)
part D pins: 14 +IN D (in), 15 -IN D (in), 16 OUT D (out)
part E pins: 4 V+ (power), 8 NC, 9 NC, 13 V- (power)

## LTC2052HVCGN#TRPBF
designator U?
Quad Channel, Zero-Drift Operational Amplifier, 3 MHz Typical GBW, 2 V/us Typical SR, 2.7 to 11 V, 16-Pin SOP (GN-16), Commercial, Pb-Free, Reel; Linear Technology Part Number: LTC2052HV; Manufacturer: Linear Technology; PartNumber: LTC2052HVCGN#TRPBF; Channels (#): 4; GBW (MHz) Typical: 3; Is (mA) Typical: 0.85; SR (V/us) Typical: 2; Vos (mV) Typical: 0.0005; Vs Max (V): 11; Vs Min (V): 2.7; DatasheetVersion: Rev. D; PackageVersion: Rev B; PackageReference: LT-GN-16; PackageDescription: 16-Lead Plastic SSOP, Body 4.9 x 3.9 mm, Pitch 0.635 mm; Supplier 1: Digi-Key; Supplier Part Number 1: LTC2052HVCGN#TRPBF-ND; Packing: Reel; RoHS: Pb-Free; Type: ZD; Mounting Technology: Surface Mount; ComponentLink1Description: Manufacturer URL; ComponentLink1URL: http://www.linear.com/; ComponentLink2Description: Datasheet; ComponentLink2URL: http://cds.linear.com/docs/en/datasheet/20512fd.pdf; ComponentLink3Description: Package Specification; ComponentLink3URL: http://cds.linear.com/docs/en/packaging/05081641_B_GN16.pdf
footprint LT-GN-16_N (SOP, 16-Leads, Body 4.9x3.9mm, Pitch 0.635mm, IPC Medium Density)
footprint LT-GN-16_L (SOP, 16-Leads, Body 4.9x3.9mm, Pitch 0.635mm, IPC High Density)
footprint LT-GN-16_M (SOP, 16-Leads, Body 4.9x3.9mm, Pitch 0.635mm, IPC Low Density)
part A pins: 1 OUT A (out), 2 -IN A (in), 3 +IN A (in)
part B pins: 5 +IN B (in), 6 -IN B (in), 7 OUT B (out)
part C pins: 10 OUT C (out), 11 -IN C (in), 12 +IN C (in)
part D pins: 14 +IN D (in), 15 -IN D (in), 16 OUT D (out)
part E pins: 4 V+ (power), 8 NC, 9 NC, 13 V- (power)

## LTC2052HVCS
designator U?
Quad Channel, Zero-Drift Operational Amplifier, 3 MHz Typical GBW, 2 V/us Typical SR, 2.7 to 11 V, 14-Pin SOIC (S-14), Commercial; Linear Technology Part Number: LTC2052HV; Manufacturer: Linear Technology; PartNumber: LTC2052HVCS; Channels (#): 4; GBW (MHz) Typical: 3; Is (mA) Typical: 0.85; SR (V/us) Typical: 2; Vos (mV) Typical: 0.0005; Vs Max (V): 11; Vs Min (V): 2.7; DatasheetVersion: Rev. D; PackageVersion: Rev G; PackageReference: LT-S-14; PackageDescription: 14-Lead Plastic Small Outline, Body 8.65 x 3.90 mm, Pitch 1.27 mm; Supplier 1: Digi-Key; Supplier Part Number 1: LTC2052HVCS-ND; Type: ZD; Mounting Technology: Surface Mount; ComponentLink1Description: Manufacturer URL; ComponentLink1URL: http://www.linear.com/; ComponentLink2Description: Datasheet; ComponentLink2URL: http://cds.linear.com/docs/en/datasheet/20512fd.pdf; ComponentLink3Description: Package Specification; ComponentLink3URL: http://cds.linear.com/docs/en/packaging/05081610_G_S14.pdf
footprint LT-S-14_N (SOIC, 14-Leads, Body 8.65x3.90mm, Pitch 1.27mm, IPC Medium Density)
footprint LT-S-14_L (SOIC, 14-Leads, Body 8.65x3.90mm, Pitch 1.27mm, IPC High Density)
footprint LT-S-14_M (SOIC, 14-Leads, Body 8.65x3.90mm, Pitch 1.27mm, IPC Low Density)
pins on every part: 4 V+ (power), 11 V- (power)
part A pins: 1 OUT A (out), 2 -IN A (in), 3 +IN A (in)
part B pins: 5 +IN B (in), 6 -IN B (in), 7 OUT B (out)
part C pins: 8 OUT C (out), 9 -IN C (in), 10 +IN C (in)
part D pins: 12 +IN D (in), 13 -IN D (in), 14 OUT D (out)

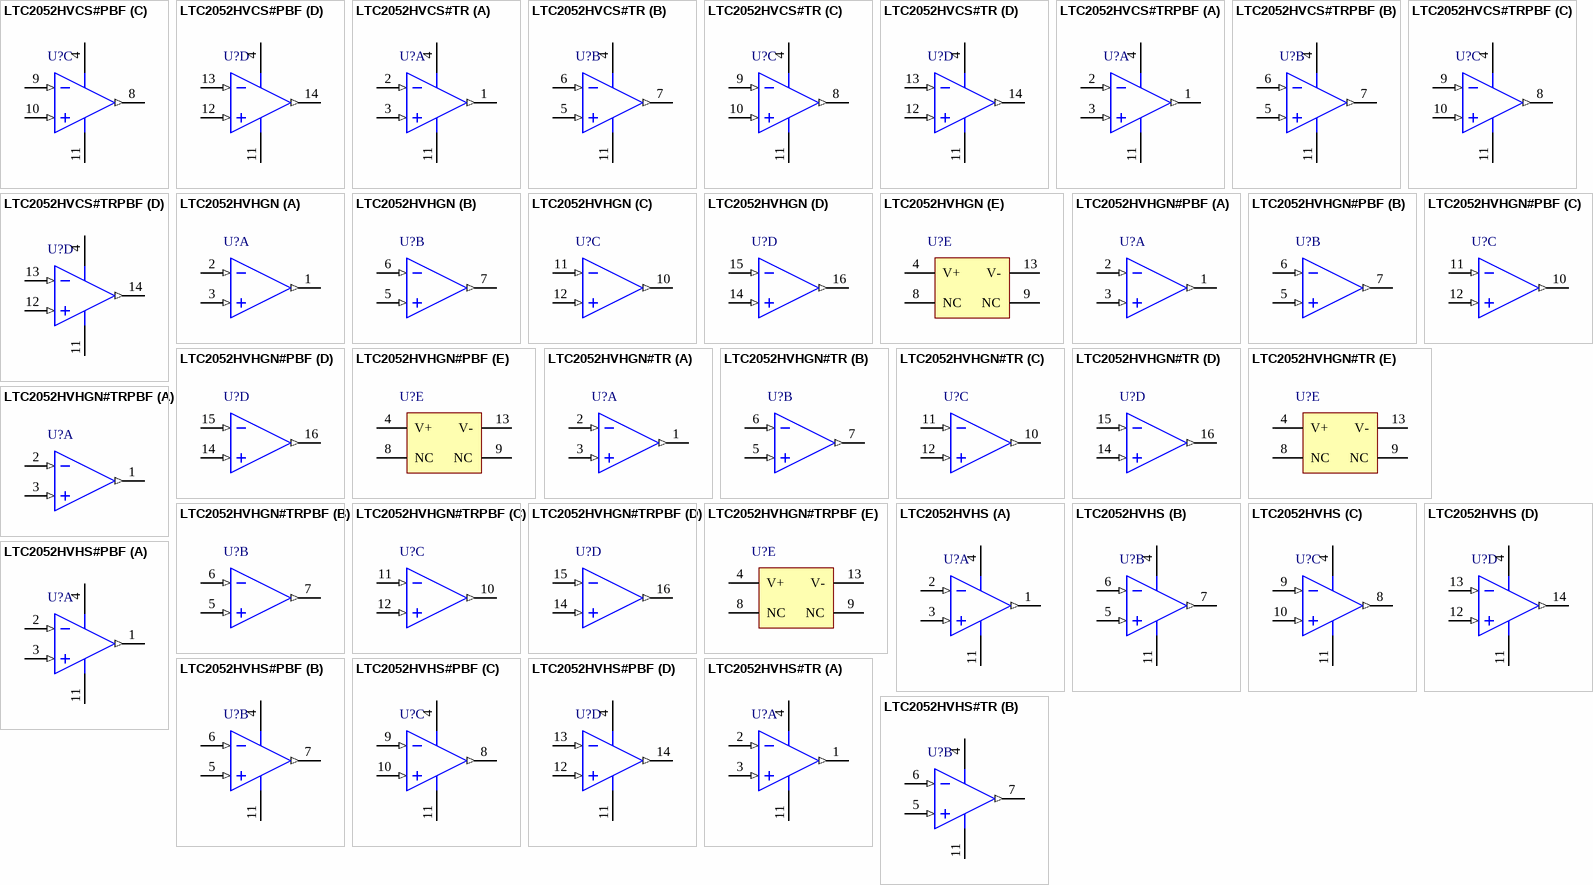
[diagram p44: symbols LTC2052HVCS#PBF to LTC2052HVHS#TR]

## LTC2052HVCS#PBF
designator U?
Quad Channel, Zero-Drift Operational Amplifier, 3 MHz Typical GBW, 2 V/us Typical SR, 2.7 to 11 V, 14-Pin SOIC (S-14), Commercial, Pb-Free; Linear Technology Part Number: LTC2052HV; Manufacturer: Linear Technology; PartNumber: LTC2052HVCS#PBF; Channels (#): 4; GBW (MHz) Typical: 3; Is (mA) Typical: 0.85; SR (V/us) Typical: 2; Vos (mV) Typical: 0.0005; Vs Max (V): 11; Vs Min (V): 2.7; DatasheetVersion: Rev. D; PackageVersion: Rev G; PackageReference: LT-S-14; PackageDescription: 14-Lead Plastic Small Outline, Body 8.65 x 3.90 mm, Pitch 1.27 mm; Supplier 1: Digi-Key; Supplier Part Number 1: LTC2052HVCS#PBF-ND; Supplier 2: Farnell; Supplier Part Number 2: 1663680; Supplier 3: Newark; Supplier Part Number 3: 56M4678; RoHS: Pb-Free; Type: ZD; Mounting Technology: Surface Mount; ComponentLink1Description: Manufacturer URL; ComponentLink1URL: http://www.linear.com/; ComponentLink2Description: Datasheet; ComponentLink2URL: http://cds.linear.com/docs/en/datasheet/20512fd.pdf; ComponentLink3Description: Package Specification; ComponentLink3URL: http://cds.linear.com/docs/en/packaging/05081610_G_S14.pdf
footprint LT-S-14_N (SOIC, 14-Leads, Body 8.65x3.90mm, Pitch 1.27mm, IPC Medium Density)
footprint LT-S-14_L (SOIC, 14-Leads, Body 8.65x3.90mm, Pitch 1.27mm, IPC High Density)
footprint LT-S-14_M (SOIC, 14-Leads, Body 8.65x3.90mm, Pitch 1.27mm, IPC Low Density)
pins on every part: 4 V+ (power), 11 V- (power)
part A pins: 1 OUT A (out), 2 -IN A (in), 3 +IN A (in)
part B pins: 5 +IN B (in), 6 -IN B (in), 7 OUT B (out)
part C pins: 8 OUT C (out), 9 -IN C (in), 10 +IN C (in)
part D pins: 12 +IN D (in), 13 -IN D (in), 14 OUT D (out)

## LTC2052HVCS#TR
designator U?
Quad Channel, Zero-Drift Operational Amplifier, 3 MHz Typical GBW, 2 V/us Typical SR, 2.7 to 11 V, 14-Pin SOIC (S-14), Commercial, Reel; Linear Technology Part Number: LTC2052HV; Manufacturer: Linear Technology; PartNumber: LTC2052HVCS#TR; Channels (#): 4; GBW (MHz) Typical: 3; Is (mA) Typical: 0.85; SR (V/us) Typical: 2; Vos (mV) Typical: 0.0005; Vs Max (V): 11; Vs Min (V): 2.7; DatasheetVersion: Rev. D; PackageVersion: Rev G; PackageReference: LT-S-14; PackageDescription: 14-Lead Plastic Small Outline, Body 8.65 x 3.90 mm, Pitch 1.27 mm; Supplier 1: Digi-Key; Supplier Part Number 1: LTC2052HVCSTR-ND; Packing: Reel; Type: ZD; Mounting Technology: Surface Mount; ComponentLink1Description: Manufacturer URL; ComponentLink1URL: http://www.linear.com/; ComponentLink2Description: Datasheet; ComponentLink2URL: http://cds.linear.com/docs/en/datasheet/20512fd.pdf; ComponentLink3Description: Package Specification; ComponentLink3URL: http://cds.linear.com/docs/en/packaging/05081610_G_S14.pdf
footprint LT-S-14_N (SOIC, 14-Leads, Body 8.65x3.90mm, Pitch 1.27mm, IPC Medium Density)
footprint LT-S-14_L (SOIC, 14-Leads, Body 8.65x3.90mm, Pitch 1.27mm, IPC High Density)
footprint LT-S-14_M (SOIC, 14-Leads, Body 8.65x3.90mm, Pitch 1.27mm, IPC Low Density)
pins on every part: 4 V+ (power), 11 V- (power)
part A pins: 1 OUT A (out), 2 -IN A (in), 3 +IN A (in)
part B pins: 5 +IN B (in), 6 -IN B (in), 7 OUT B (out)
part C pins: 8 OUT C (out), 9 -IN C (in), 10 +IN C (in)
part D pins: 12 +IN D (in), 13 -IN D (in), 14 OUT D (out)

## LTC2052HVCS#TRPBF
designator U?
Quad Channel, Zero-Drift Operational Amplifier, 3 MHz Typical GBW, 2 V/us Typical SR, 2.7 to 11 V, 14-Pin SOIC (S-14), Commercial, Pb-Free, Reel; Linear Technology Part Number: LTC2052HV; Manufacturer: Linear Technology; PartNumber: LTC2052HVCS#TRPBF; Channels (#): 4; GBW (MHz) Typical: 3; Is (mA) Typical: 0.85; SR (V/us) Typical: 2; Vos (mV) Typical: 0.0005; Vs Max (V): 11; Vs Min (V): 2.7; DatasheetVersion: Rev. D; PackageVersion: Rev G; PackageReference: LT-S-14; PackageDescription: 14-Lead Plastic Small Outline, Body 8.65 x 3.90 mm, Pitch 1.27 mm; Supplier 1: Digi-Key; Supplier Part Number 1: LTC2052HVCS#TRPBF-ND; Packing: Reel; RoHS: Pb-Free; Type: ZD; Mounting Technology: Surface Mount; ComponentLink1Description: Manufacturer URL; ComponentLink1URL: http://www.linear.com/; ComponentLink2Description: Datasheet; ComponentLink2URL: http://cds.linear.com/docs/en/datasheet/20512fd.pdf; ComponentLink3Description: Package Specification; ComponentLink3URL: http://cds.linear.com/docs/en/packaging/05081610_G_S14.pdf
footprint LT-S-14_N (SOIC, 14-Leads, Body 8.65x3.90mm, Pitch 1.27mm, IPC Medium Density)
footprint LT-S-14_L (SOIC, 14-Leads, Body 8.65x3.90mm, Pitch 1.27mm, IPC High Density)
footprint LT-S-14_M (SOIC, 14-Leads, Body 8.65x3.90mm, Pitch 1.27mm, IPC Low Density)
pins on every part: 4 V+ (power), 11 V- (power)
part A pins: 1 OUT A (out), 2 -IN A (in), 3 +IN A (in)
part B pins: 5 +IN B (in), 6 -IN B (in), 7 OUT B (out)
part C pins: 8 OUT C (out), 9 -IN C (in), 10 +IN C (in)
part D pins: 12 +IN D (in), 13 -IN D (in), 14 OUT D (out)

## LTC2052HVHGN
designator U?
Quad Channel, Zero-Drift Operational Amplifier, 3 MHz Typical GBW, 2 V/us Typical SR, 2.7 to 11 V, 16-Pin SOP (GN-16), High Temperature / Automotive; Linear Technology Part Number: LTC2052HV; Manufacturer: Linear Technology; PartNumber: LTC2052HVHGN; Channels (#): 4; GBW (MHz) Typical: 3; Is (mA) Typical: 0.85; SR (V/us) Typical: 2; Vos (mV) Typical: 0.0005; Vs Max (V): 11; Vs Min (V): 2.7; DatasheetVersion: Rev. D; PackageVersion: Rev B; PackageReference: LT-GN-16; PackageDescription: 16-Lead Plastic SSOP, Body 4.9 x 3.9 mm, Pitch 0.635 mm; Supplier 1: Digi-Key; Supplier Part Number 1: LTC2052HVHGN-ND; Type: ZD; Mounting Technology: Surface Mount; ComponentLink1Description: Manufacturer URL; ComponentLink1URL: http://www.linear.com/; ComponentLink2Description: Datasheet; ComponentLink2URL: http://cds.linear.com/docs/en/datasheet/20512fd.pdf; ComponentLink3Description: Package Specification; ComponentLink3URL: http://cds.linear.com/docs/en/packaging/05081641_B_GN16.pdf
footprint LT-GN-16_N (SOP, 16-Leads, Body 4.9x3.9mm, Pitch 0.635mm, IPC Medium Density)
footprint LT-GN-16_L (SOP, 16-Leads, Body 4.9x3.9mm, Pitch 0.635mm, IPC High Density)
footprint LT-GN-16_M (SOP, 16-Leads, Body 4.9x3.9mm, Pitch 0.635mm, IPC Low Density)
part A pins: 1 OUT A (out), 2 -IN A (in), 3 +IN A (in)
part B pins: 5 +IN B (in), 6 -IN B (in), 7 OUT B (out)
part C pins: 10 OUT C (out), 11 -IN C (in), 12 +IN C (in)
part D pins: 14 +IN D (in), 15 -IN D (in), 16 OUT D (out)
part E pins: 4 V+ (power), 8 NC, 9 NC, 13 V- (power)

## LTC2052HVHGN#PBF
designator U?
Quad Channel, Zero-Drift Operational Amplifier, 3 MHz Typical GBW, 2 V/us Typical SR, 2.7 to 11 V, 16-Pin SOP (GN-16), High Temperature / Automotive, Pb-Free; Linear Technology Part Number: LTC2052HV; Manufacturer: Linear Technology; PartNumber: LTC2052HVHGN#PBF; Channels (#): 4; GBW (MHz) Typical: 3; Is (mA) Typical: 0.85; SR (V/us) Typical: 2; Vos (mV) Typical: 0.0005; Vs Max (V): 11; Vs Min (V): 2.7; DatasheetVersion: Rev. D; PackageVersion: Rev B; PackageReference: LT-GN-16; PackageDescription: 16-Lead Plastic SSOP, Body 4.9 x 3.9 mm, Pitch 0.635 mm; Supplier 1: Digi-Key; Supplier Part Number 1: LTC2052HVHGN#PBF-ND; Supplier 2: Newark; Supplier Part Number 2: 56M4682; RoHS: Pb-Free; Type: ZD; Mounting Technology: Surface Mount; ComponentLink1Description: Manufacturer URL; ComponentLink1URL: http://www.linear.com/; ComponentLink2Description: Datasheet; ComponentLink2URL: http://cds.linear.com/docs/en/datasheet/20512fd.pdf; ComponentLink3Description: Package Specification; ComponentLink3URL: http://cds.linear.com/docs/en/packaging/05081641_B_GN16.pdf
footprint LT-GN-16_N (SOP, 16-Leads, Body 4.9x3.9mm, Pitch 0.635mm, IPC Medium Density)
footprint LT-GN-16_L (SOP, 16-Leads, Body 4.9x3.9mm, Pitch 0.635mm, IPC High Density)
footprint LT-GN-16_M (SOP, 16-Leads, Body 4.9x3.9mm, Pitch 0.635mm, IPC Low Density)
part A pins: 1 OUT A (out), 2 -IN A (in), 3 +IN A (in)
part B pins: 5 +IN B (in), 6 -IN B (in), 7 OUT B (out)
part C pins: 10 OUT C (out), 11 -IN C (in), 12 +IN C (in)
part D pins: 14 +IN D (in), 15 -IN D (in), 16 OUT D (out)
part E pins: 4 V+ (power), 8 NC, 9 NC, 13 V- (power)

## LTC2052HVHGN#TR
designator U?
Quad Channel, Zero-Drift Operational Amplifier, 3 MHz Typical GBW, 2 V/us Typical SR, 2.7 to 11 V, 16-Pin SOP (GN-16), High Temperature / Automotive, Reel; Linear Technology Part Number: LTC2052HV; Manufacturer: Linear Technology; PartNumber: LTC2052HVHGN#TR; Channels (#): 4; GBW (MHz) Typical: 3; Is (mA) Typical: 0.85; SR (V/us) Typical: 2; Vos (mV) Typical: 0.0005; Vs Max (V): 11; Vs Min (V): 2.7; DatasheetVersion: Rev. D; PackageVersion: Rev B; PackageReference: LT-GN-16; PackageDescription: 16-Lead Plastic SSOP, Body 4.9 x 3.9 mm, Pitch 0.635 mm; Supplier 1: Digi-Key; Supplier Part Number 1: LTC2052HVHGNTR-ND; Packing: Reel; Type: ZD; Mounting Technology: Surface Mount; ComponentLink1Description: Manufacturer URL; ComponentLink1URL: http://www.linear.com/; ComponentLink2Description: Datasheet; ComponentLink2URL: http://cds.linear.com/docs/en/datasheet/20512fd.pdf; ComponentLink3Description: Package Specification; ComponentLink3URL: http://cds.linear.com/docs/en/packaging/05081641_B_GN16.pdf
footprint LT-GN-16_N (SOP, 16-Leads, Body 4.9x3.9mm, Pitch 0.635mm, IPC Medium Density)
footprint LT-GN-16_L (SOP, 16-Leads, Body 4.9x3.9mm, Pitch 0.635mm, IPC High Density)
footprint LT-GN-16_M (SOP, 16-Leads, Body 4.9x3.9mm, Pitch 0.635mm, IPC Low Density)
part A pins: 1 OUT A (out), 2 -IN A (in), 3 +IN A (in)
part B pins: 5 +IN B (in), 6 -IN B (in), 7 OUT B (out)
part C pins: 10 OUT C (out), 11 -IN C (in), 12 +IN C (in)
part D pins: 14 +IN D (in), 15 -IN D (in), 16 OUT D (out)
part E pins: 4 V+ (power), 8 NC, 9 NC, 13 V- (power)

## LTC2052HVHGN#TRPBF
designator U?
Quad Channel, Zero-Drift Operational Amplifier, 3 MHz Typical GBW, 2 V/us Typical SR, 2.7 to 11 V, 16-Pin SOP (GN-16), High Temperature / Automotive, Pb-Free, Reel; Linear Technology Part Number: LTC2052HV; Manufacturer: Linear Technology; PartNumber: LTC2052HVHGN#TRPBF; Channels (#): 4; GBW (MHz) Typical: 3; Is (mA) Typical: 0.85; SR (V/us) Typical: 2; Vos (mV) Typical: 0.0005; Vs Max (V): 11; Vs Min (V): 2.7; DatasheetVersion: Rev. D; PackageVersion: Rev B; PackageReference: LT-GN-16; PackageDescription: 16-Lead Plastic SSOP, Body 4.9 x 3.9 mm, Pitch 0.635 mm; Supplier 1: Digi-Key; Supplier Part Number 1: LTC2052HVHGN#TRPBF-ND; Supplier 2: Newark; Supplier Part Number 2: 56M4684; Packing: Reel; RoHS: Pb-Free; Type: ZD; Mounting Technology: Surface Mount; ComponentLink1Description: Manufacturer URL; ComponentLink1URL: http://www.linear.com/; ComponentLink2Description: Datasheet; ComponentLink2URL: http://cds.linear.com/docs/en/datasheet/20512fd.pdf; ComponentLink3Description: Package Specification; ComponentLink3URL: http://cds.linear.com/docs/en/packaging/05081641_B_GN16.pdf
footprint LT-GN-16_N (SOP, 16-Leads, Body 4.9x3.9mm, Pitch 0.635mm, IPC Medium Density)
footprint LT-GN-16_L (SOP, 16-Leads, Body 4.9x3.9mm, Pitch 0.635mm, IPC High Density)
footprint LT-GN-16_M (SOP, 16-Leads, Body 4.9x3.9mm, Pitch 0.635mm, IPC Low Density)
part A pins: 1 OUT A (out), 2 -IN A (in), 3 +IN A (in)
part B pins: 5 +IN B (in), 6 -IN B (in), 7 OUT B (out)
part C pins: 10 OUT C (out), 11 -IN C (in), 12 +IN C (in)
part D pins: 14 +IN D (in), 15 -IN D (in), 16 OUT D (out)
part E pins: 4 V+ (power), 8 NC, 9 NC, 13 V- (power)

## LTC2052HVHS
designator U?
Quad Channel, Zero-Drift Operational Amplifier, 3 MHz Typical GBW, 2 V/us Typical SR, 2.7 to 11 V, 14-Pin SOIC (S-14), High Temperature / Automotive; Linear Technology Part Number: LTC2052HV; Manufacturer: Linear Technology; PartNumber: LTC2052HVHS; Channels (#): 4; GBW (MHz) Typical: 3; Is (mA) Typical: 0.85; SR (V/us) Typical: 2; Vos (mV) Typical: 0.0005; Vs Max (V): 11; Vs Min (V): 2.7; DatasheetVersion: Rev. D; PackageVersion: Rev G; PackageReference: LT-S-14; PackageDescription: 14-Lead Plastic Small Outline, Body 8.65 x 3.90 mm, Pitch 1.27 mm; Supplier 1: Digi-Key; Supplier Part Number 1: LTC2052HVHS-ND; Type: ZD; Mounting Technology: Surface Mount; ComponentLink1Description: Manufacturer URL; ComponentLink1URL: http://www.linear.com/; ComponentLink2Description: Datasheet; ComponentLink2URL: http://cds.linear.com/docs/en/datasheet/20512fd.pdf; ComponentLink3Description: Package Specification; ComponentLink3URL: http://cds.linear.com/docs/en/packaging/05081610_G_S14.pdf
footprint LT-S-14_N (SOIC, 14-Leads, Body 8.65x3.90mm, Pitch 1.27mm, IPC Medium Density)
footprint LT-S-14_L (SOIC, 14-Leads, Body 8.65x3.90mm, Pitch 1.27mm, IPC High Density)
footprint LT-S-14_M (SOIC, 14-Leads, Body 8.65x3.90mm, Pitch 1.27mm, IPC Low Density)
pins on every part: 4 V+ (power), 11 V- (power)
part A pins: 1 OUT A (out), 2 -IN A (in), 3 +IN A (in)
part B pins: 5 +IN B (in), 6 -IN B (in), 7 OUT B (out)
part C pins: 8 OUT C (out), 9 -IN C (in), 10 +IN C (in)
part D pins: 12 +IN D (in), 13 -IN D (in), 14 OUT D (out)